# EAGLE library part 90130-1?06 (library con-molex-c-grid)
C-Grid III
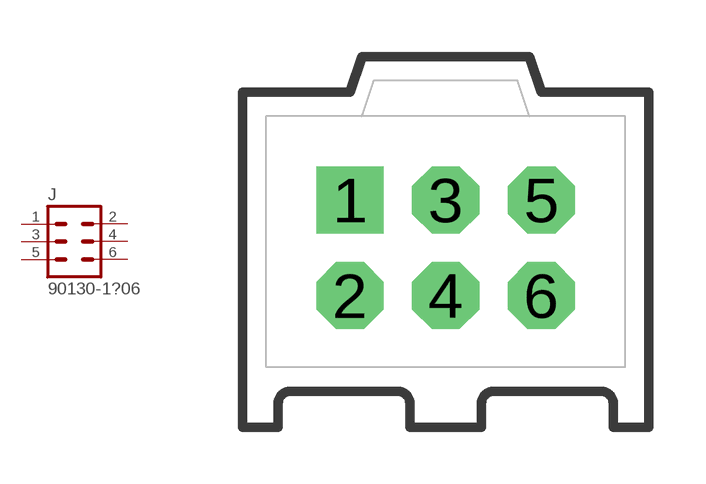
[diagram p80: symbol with the pads of 90130-1?06; footprint 90130-1?06]

Designator prefix J

## 90130-106  [90130-1?06]
1  1  pas
2  2  pas
3  3  pas
4  4  pas
5  5  pas
6  6  pas

## Footprint 90130-1?06 (pad centres in mm)
C-Grid III vertical, dual row
drill 1.016 pad 1.778 square: 1 -2.54,1.27
drill 1.016 pad 1.778 octagon: 2 -2.54,-1.27; 3 0,1.27; 4 0,-1.27; 5 2.54,1.27; 6 2.54,-1.27